# Altium integrated library TI_Logic_Gate.IntLib: 2017 symbols (part 6 of 56)
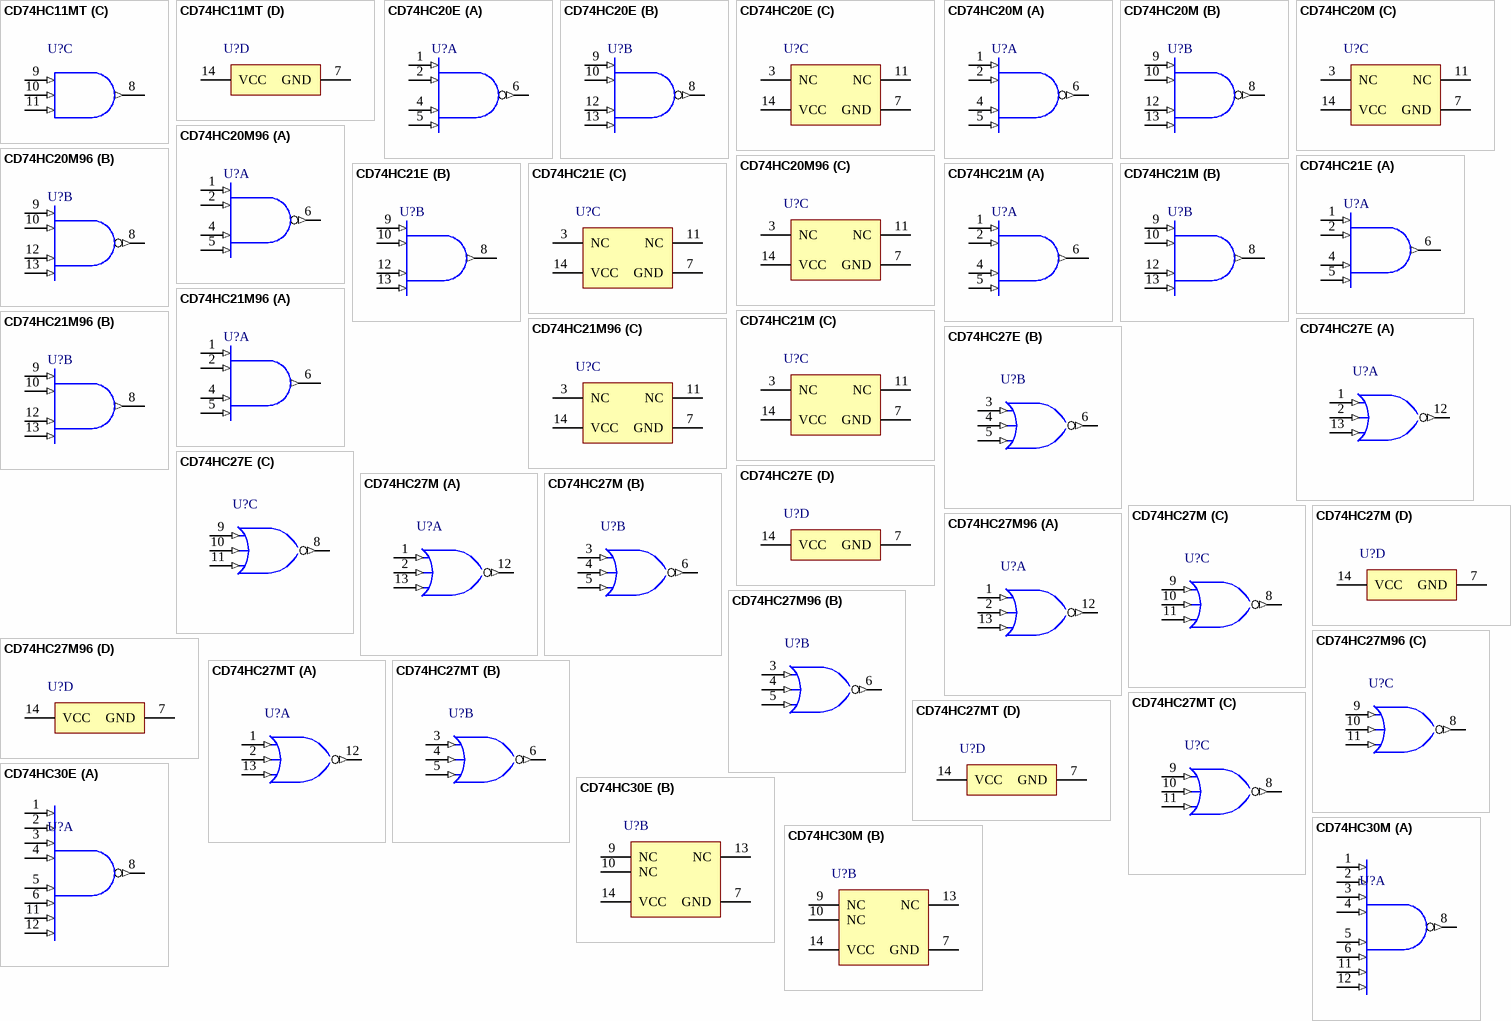
[diagram p231: symbols CD74HC11MT to CD74HC30M]

## CD74HC27MT
designator U?
High Speed CMOS Logic Triple 3-Input NOR Gates, D0014A, SMALL T&R; Generic Part Number: CD74HC27; Manufacturer: Texas Instruments; PartNumber: CD74HC27MT; VCC(Min)(V): 2; VCC(Max)(V): 6; Bits(#): 3; Rating: Catalog; tpd @ Nom Voltage(Max)(ns): 24; ICC @ Nom Voltage(Max)(mA): 0.02; F @ Nom Voltage(Max)(Mhz): 70; Voltage(Nom)(V): 5; Output Drive (IOL/IOH)(Max)(mA): 5.2/-5.2; DatasheetVersion: SCHS132C; PackageReference: D0014A; Output Type: CMOS; Input Type: CMOS; Operating Temperature Range(C): -55 to 125; Code_JEDEC: MS-012; ComponentLink1Description: Manufacturer URL; ComponentLink1URL: http://www.ti.com/; ComponentLink2Description: Datasheet; ComponentLink2URL: http://www.ti.com/lit/ds/symlink/cd74hc27.pdf; ComponentLink3Description: Package Specification; ComponentLink3URL: http://www.ti.com/lit/ml/mpds177g/mpds177g.pdf
footprint D0014A_N (SOIC, 14-Leads, Body 8.75x4mm, Pitch 1.27mm, IPC Medium Density)
footprint D0014A_M (SOIC, 14-Leads, Body 8.75x4mm, Pitch 1.27mm, IPC Low Density)
footprint D0014A_L (SOIC, 14-Leads, Body 8.75x4mm, Pitch 1.27mm, IPC High Density)
part A pins: 1 1A (in), 2 1B (in), 12 1Y (out), 13 1C (in)
part B pins: 3 2A (in), 4 2B (in), 5 2C (in), 6 2Y (out)
part C pins: 8 3Y (out), 9 3A (in), 10 3B (in), 11 3C (in)
part D pins: 7 GND (power), 14 VCC (power)

## CD74HC30E
designator U?
High Speed CMOS Logic 8-Input NAND Gate, N0014A, TUBE; Generic Part Number: CD74HC30; Manufacturer: Texas Instruments; PartNumber: CD74HC30E; VCC(Min)(V): 2; VCC(Max)(V): 6; ICC @ Nom Voltage(Max)(mA): 0.02; Bits(#): 1; F @ Nom Voltage(Max)(Mhz): 70; Rating: Catalog; Technology Family: HC; Voltage(Nom)(V): 5; Schmitt Trigger: No; Output Drive (IOL/IOH)(Max)(mA): 4/-4; tpd @ Nom Voltage(Max)(ns): 28; DatasheetVersion: SCHS121D; PackageReference: N0014A; Supplier 1: Mouser; Supplier Part Number 1: 595-CD74HC30E; Supplier 2: Digi-Key; Supplier Part Number 2: 296-9196-5-ND; Output Type: CMOS; Input Type: CMOS; Operating Temperature Range(C): -55 to 125; Code_JEDEC: MS-001; ComponentLink1Description: Manufacturer URL; ComponentLink1URL: http://www.ti.com/; ComponentLink2Description: Datasheet; ComponentLink2URL: http://www.ti.com/lit/ds/symlink/cd74hc30.pdf; ComponentLink3Description: Package Specification; ComponentLink3URL: http://www.ti.com/lit/ml/mpdi002c/mpdi002c.pdf
footprint N0014A (DIP, 14-Leads, Body 19.7x6.6mm, Pitch 2.54mm)
part A pins: 1 A (in), 2 B (in), 3 C (in), 4 D (in), 5 E (in), 6 F (in), 8 ~{Y} (out), 11 G (in), 12 H (in)
part B pins: 7 GND (power), 9 NC, 10 NC, 13 NC, 14 VCC (power)

## CD74HC30M
designator U?
High Speed CMOS Logic 8-Input NAND Gate, D0014A, TUBE; Generic Part Number: CD74HC30; Manufacturer: Texas Instruments; PartNumber: CD74HC30M; VCC(Min)(V): 2; VCC(Max)(V): 6; ICC @ Nom Voltage(Max)(mA): 0.02; Bits(#): 1; F @ Nom Voltage(Max)(Mhz): 70; Rating: Catalog; Technology Family: HC; Voltage(Nom)(V): 5; Schmitt Trigger: No; Output Drive (IOL/IOH)(Max)(mA): 4/-4; tpd @ Nom Voltage(Max)(ns): 28; DatasheetVersion: SCHS121D; PackageReference: D0014A; Supplier 1: Mouser; Supplier Part Number 1: 595-CD74HC30M; Supplier 2: Digi-Key; Supplier Part Number 2: 296-9197-5-ND; Output Type: CMOS; Input Type: CMOS; Operating Temperature Range(C): -55 to 125; Code_JEDEC: MS-012; ComponentLink1Description: Manufacturer URL; ComponentLink1URL: http://www.ti.com/; ComponentLink2Description: Datasheet; ComponentLink2URL: http://www.ti.com/lit/ds/symlink/cd74hc30.pdf; ComponentLink3Description: Package Specification; ComponentLink3URL: http://www.ti.com/lit/ml/mpds177g/mpds177g.pdf
footprint D0014A_N (SOIC, 14-Leads, Body 8.75x4mm, Pitch 1.27mm, IPC Medium Density)
footprint D0014A_M (SOIC, 14-Leads, Body 8.75x4mm, Pitch 1.27mm, IPC Low Density)
footprint D0014A_L (SOIC, 14-Leads, Body 8.75x4mm, Pitch 1.27mm, IPC High Density)
part A pins: 1 A (in), 2 B (in), 3 C (in), 4 D (in), 5 E (in), 6 F (in), 8 ~{Y} (out), 11 G (in), 12 H (in)
part B pins: 7 GND (power), 9 NC, 10 NC, 13 NC, 14 VCC (power)

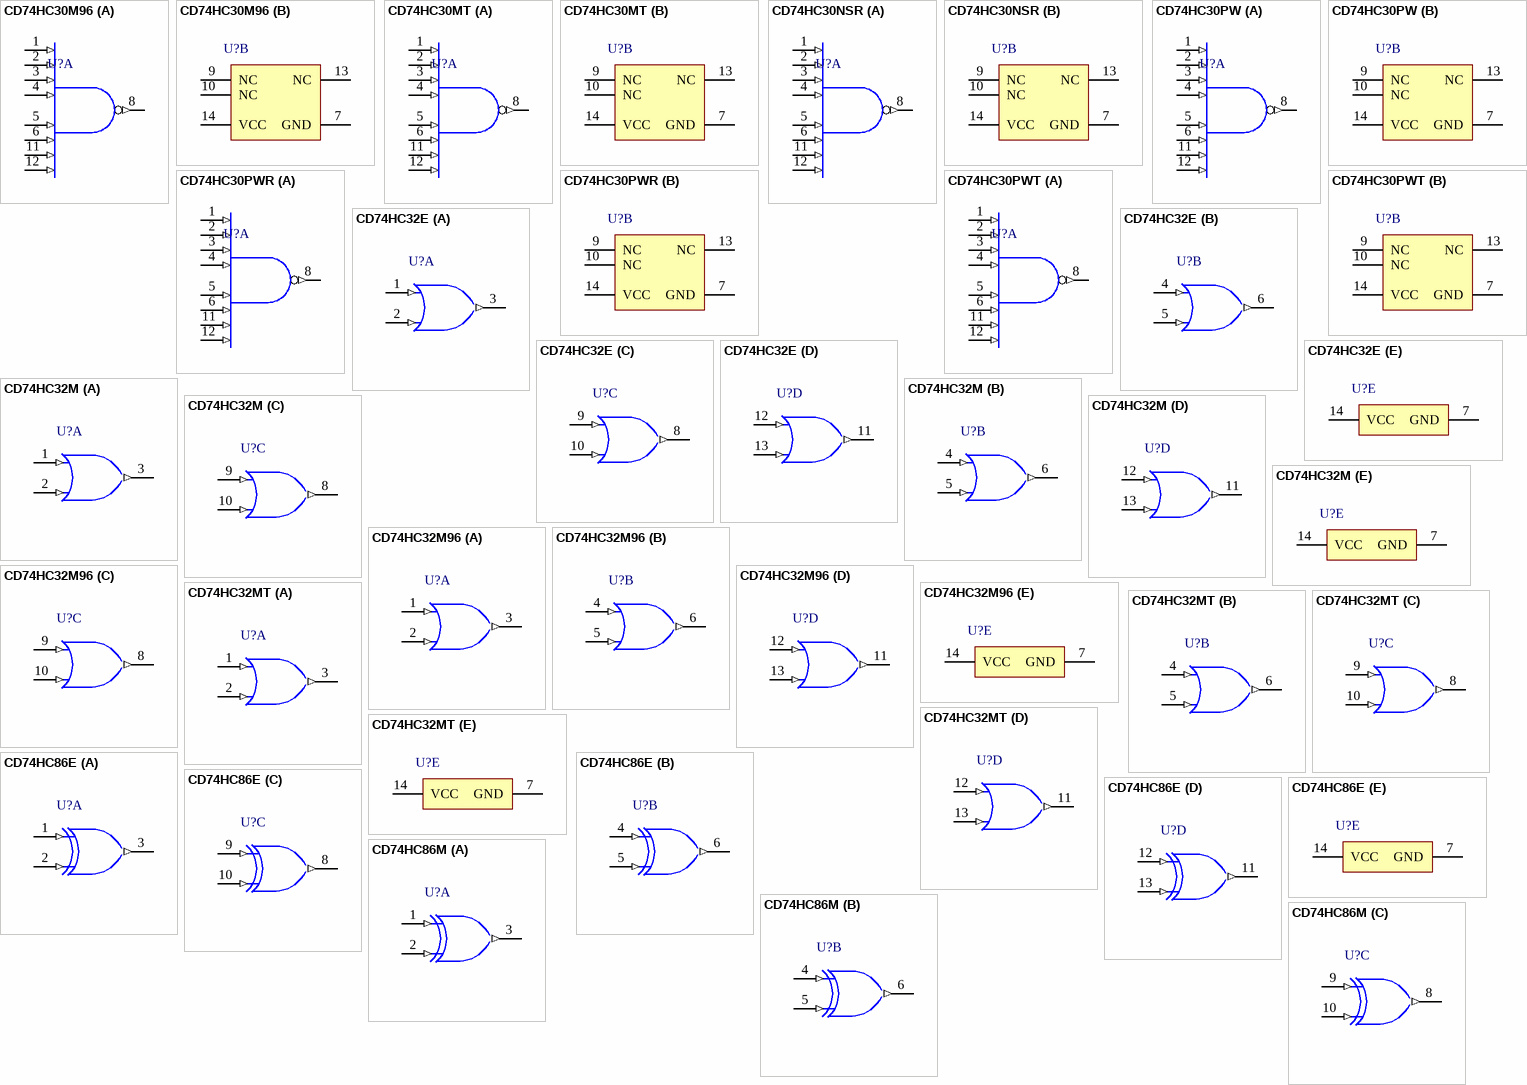
[diagram p22: symbols CD74HC30M96 to CD74HC86M]

## CD74HC30M96
designator U?
High Speed CMOS Logic 8-Input NAND Gate, D0014A, LARGE T&R; Generic Part Number: CD74HC30; Manufacturer: Texas Instruments; PartNumber: CD74HC30M96; VCC(Min)(V): 2; VCC(Max)(V): 6; ICC @ Nom Voltage(Max)(mA): 0.02; Bits(#): 1; F @ Nom Voltage(Max)(Mhz): 70; Rating: Catalog; Technology Family: HC; Voltage(Nom)(V): 5; Schmitt Trigger: No; Output Drive (IOL/IOH)(Max)(mA): 4/-4; tpd @ Nom Voltage(Max)(ns): 28; DatasheetVersion: SCHS121D; PackageReference: D0014A; Supplier 1: Mouser; Supplier Part Number 1: 595-CD74HC30M96; Supplier 2: Digi-Key; Supplier Part Number 2: 296-14521-2-ND; Supplier 3: Digi-Key; Supplier Part Number 3: 296-14521-1-ND; Supplier 4: Digi-Key; Supplier Part Number 4: 296-14521-6-ND; Output Type: CMOS; Input Type: CMOS; Operating Temperature Range(C): -55 to 125; Code_JEDEC: MS-012; ComponentLink1Description: Manufacturer URL; ComponentLink1URL: http://www.ti.com/; ComponentLink2Description: Datasheet; ComponentLink2URL: http://www.ti.com/lit/ds/symlink/cd74hc30.pdf; ComponentLink3Description: Package Specification; ComponentLink3URL: http://www.ti.com/lit/ml/mpds177g/mpds177g.pdf
footprint D0014A_N (SOIC, 14-Leads, Body 8.75x4mm, Pitch 1.27mm, IPC Medium Density)
footprint D0014A_M (SOIC, 14-Leads, Body 8.75x4mm, Pitch 1.27mm, IPC Low Density)
footprint D0014A_L (SOIC, 14-Leads, Body 8.75x4mm, Pitch 1.27mm, IPC High Density)
part A pins: 1 A (in), 2 B (in), 3 C (in), 4 D (in), 5 E (in), 6 F (in), 8 ~{Y} (out), 11 G (in), 12 H (in)
part B pins: 7 GND (power), 9 NC, 10 NC, 13 NC, 14 VCC (power)

## CD74HC30MT
designator U?
High Speed CMOS Logic 8-Input NAND Gate, D0014A, SMALL T&R; Generic Part Number: CD74HC30; Manufacturer: Texas Instruments; PartNumber: CD74HC30MT; VCC(Min)(V): 2; VCC(Max)(V): 6; ICC @ Nom Voltage(Max)(mA): 0.02; Bits(#): 1; F @ Nom Voltage(Max)(Mhz): 70; Rating: Catalog; Technology Family: HC; Voltage(Nom)(V): 5; Schmitt Trigger: No; Output Drive (IOL/IOH)(Max)(mA): 4/-4; tpd @ Nom Voltage(Max)(ns): 28; DatasheetVersion: SCHS121D; PackageReference: D0014A; Supplier 1: Mouser; Supplier Part Number 1: 595-CD74HC30MT; Supplier 2: Digi-Key; Supplier Part Number 2: CD74HC30MT-ND; Output Type: CMOS; Input Type: CMOS; Operating Temperature Range(C): -55 to 125; Code_JEDEC: MS-012; ComponentLink1Description: Manufacturer URL; ComponentLink1URL: http://www.ti.com/; ComponentLink2Description: Datasheet; ComponentLink2URL: http://www.ti.com/lit/ds/symlink/cd74hc30.pdf; ComponentLink3Description: Package Specification; ComponentLink3URL: http://www.ti.com/lit/ml/mpds177g/mpds177g.pdf
footprint D0014A_N (SOIC, 14-Leads, Body 8.75x4mm, Pitch 1.27mm, IPC Medium Density)
footprint D0014A_M (SOIC, 14-Leads, Body 8.75x4mm, Pitch 1.27mm, IPC Low Density)
footprint D0014A_L (SOIC, 14-Leads, Body 8.75x4mm, Pitch 1.27mm, IPC High Density)
part A pins: 1 A (in), 2 B (in), 3 C (in), 4 D (in), 5 E (in), 6 F (in), 8 ~{Y} (out), 11 G (in), 12 H (in)
part B pins: 7 GND (power), 9 NC, 10 NC, 13 NC, 14 VCC (power)

## CD74HC30NSR
designator U?
High Speed CMOS Logic 8-Input NAND Gate, NS0014A, LARGE T&R; Generic Part Number: CD74HC30; Manufacturer: Texas Instruments; PartNumber: CD74HC30NSR; VCC(Min)(V): 2; VCC(Max)(V): 6; ICC @ Nom Voltage(Max)(mA): 0.02; Bits(#): 1; F @ Nom Voltage(Max)(Mhz): 70; Rating: Catalog; Technology Family: HC; Voltage(Nom)(V): 5; Schmitt Trigger: No; Output Drive (IOL/IOH)(Max)(mA): 4/-4; tpd @ Nom Voltage(Max)(ns): 28; DatasheetVersion: SCHS121D; PackageReference: NS0014A; Supplier 1: Mouser; Supplier Part Number 1: 595-CD74HC30NSR; Supplier 2: Digi-Key; Supplier Part Number 2: 296-28892-2-ND; Supplier 3: Digi-Key; Supplier Part Number 3: 296-28892-1-ND; Supplier 4: Digi-Key; Supplier Part Number 4: 296-28892-6-ND; Output Type: CMOS; Input Type: CMOS; Operating Temperature Range(C): -55 to 125; ComponentLink1Description: Manufacturer URL; ComponentLink1URL: http://www.ti.com/; ComponentLink2Description: Datasheet; ComponentLink2URL: http://www.ti.com/lit/ds/symlink/cd74hc30.pdf; ComponentLink3Description: Package Specification; ComponentLink3URL: http://www.ti.com/lit/ml/msop002a/msop002a.pdf
footprint NS0014A_N (SOIC,14-Leads,Body 10.5x5.6mm,Pitch 1.27mm,IPC Medium Density)
footprint NS0014A_M (SOIC,14-Leads,Body 10.5x5.6mm,Pitch 1.27mm,IPC Low Density)
footprint NS0014A_L (SOIC,14-Leads,Body 10.5x5.6mm,Pitch 0.4mm,IPC High Density)
part A pins: 1 A (in), 2 B (in), 3 C (in), 4 D (in), 5 E (in), 6 F (in), 8 ~{Y} (out), 11 G (in), 12 H (in)
part B pins: 7 GND (power), 9 NC, 10 NC, 13 NC, 14 VCC (power)

## CD74HC30PW
designator U?
High Speed CMOS Logic 8-Input NAND Gate, PW0014A, TUBE; Generic Part Number: CD74HC30; Manufacturer: Texas Instruments; PartNumber: CD74HC30PW; VCC(Min)(V): 2; VCC(Max)(V): 6; ICC @ Nom Voltage(Max)(mA): 0.02; Bits(#): 1; F @ Nom Voltage(Max)(Mhz): 70; Rating: Catalog; Technology Family: HC; Voltage(Nom)(V): 5; Schmitt Trigger: No; Output Drive (IOL/IOH)(Max)(mA): 4/-4; tpd @ Nom Voltage(Max)(ns): 28; DatasheetVersion: SCHS121D; PackageReference: PW0014A; Supplier 1: Mouser; Supplier Part Number 1: 595-CD74HC30PW; Supplier 2: Digi-Key; Supplier Part Number 2: 296-33067-5-ND; Output Type: CMOS; Input Type: CMOS; Operating Temperature Range(C): -55 to 125; Code_JEDEC: MO-153; ComponentLink1Description: Manufacturer URL; ComponentLink1URL: http://www.ti.com/; ComponentLink2Description: Datasheet; ComponentLink2URL: http://www.ti.com/lit/ds/symlink/cd74hc30.pdf; ComponentLink3Description: Package Specification; ComponentLink3URL: http://www.ti.com/lit/ml/mpds360/mpds360.pdf
footprint PW0014A_N (SOP, 14-Leads, Body 5.1x4.5mm, Pitch 0.65mm, IPC Medium Density)
footprint PW0014A_M (SOP, 14-Leads, Body 5.1x4.5mm, Pitch 0.65mm, IPC Low Density)
footprint PW0014A_L (SOP, 14-Leads, Body 5.1x4.5mm, Pitch 0.65mm, IPC High Density)
part A pins: 1 A (in), 2 B (in), 3 C (in), 4 D (in), 5 E (in), 6 F (in), 8 ~{Y} (out), 11 G (in), 12 H (in)
part B pins: 7 GND (power), 9 NC, 10 NC, 13 NC, 14 VCC (power)

## CD74HC30PWR
designator U?
High Speed CMOS Logic 8-Input NAND Gate, PW0014A, LARGE T&R; Generic Part Number: CD74HC30; Manufacturer: Texas Instruments; PartNumber: CD74HC30PWR; VCC(Min)(V): 2; VCC(Max)(V): 6; ICC @ Nom Voltage(Max)(mA): 0.02; Bits(#): 1; F @ Nom Voltage(Max)(Mhz): 70; Rating: Catalog; Technology Family: HC; Voltage(Nom)(V): 5; Schmitt Trigger: No; Output Drive (IOL/IOH)(Max)(mA): 4/-4; tpd @ Nom Voltage(Max)(ns): 28; DatasheetVersion: SCHS121D; PackageReference: PW0014A; Supplier 1: Mouser; Supplier Part Number 1: 595-CD74HC30PWR; Supplier 2: Digi-Key; Supplier Part Number 2: 296-28615-2-ND; Supplier 3: Digi-Key; Supplier Part Number 3: 296-28615-1-ND; Supplier 4: Digi-Key; Supplier Part Number 4: 296-28615-6-ND; Output Type: CMOS; Input Type: CMOS; Operating Temperature Range(C): -55 to 125; Code_JEDEC: MO-153; ComponentLink1Description: Manufacturer URL; ComponentLink1URL: http://www.ti.com/; ComponentLink2Description: Datasheet; ComponentLink2URL: http://www.ti.com/lit/ds/symlink/cd74hc30.pdf; ComponentLink3Description: Package Specification; ComponentLink3URL: http://www.ti.com/lit/ml/mpds360/mpds360.pdf
footprint PW0014A_N (SOP, 14-Leads, Body 5.1x4.5mm, Pitch 0.65mm, IPC Medium Density)
footprint PW0014A_M (SOP, 14-Leads, Body 5.1x4.5mm, Pitch 0.65mm, IPC Low Density)
footprint PW0014A_L (SOP, 14-Leads, Body 5.1x4.5mm, Pitch 0.65mm, IPC High Density)
part A pins: 1 A (in), 2 B (in), 3 C (in), 4 D (in), 5 E (in), 6 F (in), 8 ~{Y} (out), 11 G (in), 12 H (in)
part B pins: 7 GND (power), 9 NC, 10 NC, 13 NC, 14 VCC (power)

## CD74HC30PWT
designator U?
High Speed CMOS Logic 8-Input NAND Gate, PW0014A, SMALL T&R; Generic Part Number: CD74HC30; Manufacturer: Texas Instruments; PartNumber: CD74HC30PWT; VCC(Min)(V): 2; VCC(Max)(V): 6; ICC @ Nom Voltage(Max)(mA): 0.02; Bits(#): 1; F @ Nom Voltage(Max)(Mhz): 70; Rating: Catalog; Technology Family: HC; Voltage(Nom)(V): 5; Schmitt Trigger: No; Output Drive (IOL/IOH)(Max)(mA): 4/-4; tpd @ Nom Voltage(Max)(ns): 28; DatasheetVersion: SCHS121D; PackageReference: PW0014A; Supplier 1: Mouser; Supplier Part Number 1: 595-CD74HC30PWT; Supplier 2: Digi-Key; Supplier Part Number 2: 296-32066-2-ND; Supplier 3: Digi-Key; Supplier Part Number 3: 296-32066-1-ND; Supplier 4: Digi-Key; Supplier Part Number 4: 296-32066-6-ND; Output Type: CMOS; Input Type: CMOS; Operating Temperature Range(C): -55 to 125; Code_JEDEC: MO-153; ComponentLink1Description: Manufacturer URL; ComponentLink1URL: http://www.ti.com/; ComponentLink2Description: Datasheet; ComponentLink2URL: http://www.ti.com/lit/ds/symlink/cd74hc30.pdf; ComponentLink3Description: Package Specification; ComponentLink3URL: http://www.ti.com/lit/ml/mpds360/mpds360.pdf
footprint PW0014A_N (SOP, 14-Leads, Body 5.1x4.5mm, Pitch 0.65mm, IPC Medium Density)
footprint PW0014A_M (SOP, 14-Leads, Body 5.1x4.5mm, Pitch 0.65mm, IPC Low Density)
footprint PW0014A_L (SOP, 14-Leads, Body 5.1x4.5mm, Pitch 0.65mm, IPC High Density)
part A pins: 1 A (in), 2 B (in), 3 C (in), 4 D (in), 5 E (in), 6 F (in), 8 ~{Y} (out), 11 G (in), 12 H (in)
part B pins: 7 GND (power), 9 NC, 10 NC, 13 NC, 14 VCC (power)

## CD74HC32E
designator U?
High Speed CMOS Logic Quad 2-Input OR Gates, N0014A, TUBE; Generic Part Number: CD74HC32; Manufacturer: Texas Instruments; PartNumber: CD74HC32E; VCC(Min)(V): 2; VCC(Max)(V): 6; ICC @ Nom Voltage(Max)(mA): 0.02; Bits(#): 4; F @ Nom Voltage(Max)(Mhz): 70; Rating: Catalog; Voltage(Nom)(V): 5; Output Drive (IOL/IOH)(Max)(mA): 5.2/-5.2; tpd @ Nom Voltage(Max)(ns): 23; DatasheetVersion: SCHS274C; PackageReference: N0014A; Output Type: CMOS; Input Type: CMOS; Operating Temperature Range(C): -55 to 125; Code_JEDEC: MS-001; ComponentLink1Description: Manufacturer URL; ComponentLink1URL: http://www.ti.com/; ComponentLink2Description: Datasheet; ComponentLink2URL: http://www.ti.com/lit/ds/symlink/cd74hc32.pdf; ComponentLink3Description: Package Specification; ComponentLink3URL: http://www.ti.com/lit/ml/mpdi002c/mpdi002c.pdf
footprint N0014A (DIP, 14-Leads, Body 19.7x6.6mm, Pitch 2.54mm)
part A pins: 1 1A (in), 2 1B (in), 3 1Y (out)
part B pins: 4 2A (in), 5 2B (in), 6 2Y (out)
part C pins: 8 3Y (out), 9 3A (in), 10 3B (in)
part D pins: 11 4Y (out), 12 4A (in), 13 4B (in)
part E pins: 7 GND (power), 14 VCC (power)

## CD74HC32M
designator U?
High Speed CMOS Logic Quad 2-Input OR Gates, D0014A, TUBE; Generic Part Number: CD74HC32; Manufacturer: Texas Instruments; PartNumber: CD74HC32M; VCC(Min)(V): 2; VCC(Max)(V): 6; ICC @ Nom Voltage(Max)(mA): 0.02; Bits(#): 4; F @ Nom Voltage(Max)(Mhz): 70; Rating: Catalog; Voltage(Nom)(V): 5; Output Drive (IOL/IOH)(Max)(mA): 5.2/-5.2; tpd @ Nom Voltage(Max)(ns): 23; DatasheetVersion: SCHS274C; PackageReference: D0014A; Output Type: CMOS; Input Type: CMOS; Operating Temperature Range(C): -55 to 125; Code_JEDEC: MS-012; ComponentLink1Description: Manufacturer URL; ComponentLink1URL: http://www.ti.com/; ComponentLink2Description: Datasheet; ComponentLink2URL: http://www.ti.com/lit/ds/symlink/cd74hc32.pdf; ComponentLink3Description: Package Specification; ComponentLink3URL: http://www.ti.com/lit/ml/mpds177g/mpds177g.pdf
footprint D0014A_N (SOIC, 14-Leads, Body 8.75x4mm, Pitch 1.27mm, IPC Medium Density)
footprint D0014A_M (SOIC, 14-Leads, Body 8.75x4mm, Pitch 1.27mm, IPC Low Density)
footprint D0014A_L (SOIC, 14-Leads, Body 8.75x4mm, Pitch 1.27mm, IPC High Density)
part A pins: 1 1A (in), 2 1B (in), 3 1Y (out)
part B pins: 4 2A (in), 5 2B (in), 6 2Y (out)
part C pins: 8 3Y (out), 9 3A (in), 10 3B (in)
part D pins: 11 4Y (out), 12 4A (in), 13 4B (in)
part E pins: 7 GND (power), 14 VCC (power)

## CD74HC32M96
designator U?
High Speed CMOS Logic Quad 2-Input OR Gates, D0014A, LARGE T&R; Generic Part Number: CD74HC32; Manufacturer: Texas Instruments; PartNumber: CD74HC32M96; VCC(Min)(V): 2; VCC(Max)(V): 6; ICC @ Nom Voltage(Max)(mA): 0.02; Bits(#): 4; F @ Nom Voltage(Max)(Mhz): 70; Rating: Catalog; Voltage(Nom)(V): 5; Output Drive (IOL/IOH)(Max)(mA): 5.2/-5.2; tpd @ Nom Voltage(Max)(ns): 23; DatasheetVersion: SCHS274C; PackageReference: D0014A; Output Type: CMOS; Input Type: CMOS; Operating Temperature Range(C): -55 to 125; Code_JEDEC: MS-012; ComponentLink1Description: Manufacturer URL; ComponentLink1URL: http://www.ti.com/; ComponentLink2Description: Datasheet; ComponentLink2URL: http://www.ti.com/lit/ds/symlink/cd74hc32.pdf; ComponentLink3Description: Package Specification; ComponentLink3URL: http://www.ti.com/lit/ml/mpds177g/mpds177g.pdf
footprint D0014A_N (SOIC, 14-Leads, Body 8.75x4mm, Pitch 1.27mm, IPC Medium Density)
footprint D0014A_M (SOIC, 14-Leads, Body 8.75x4mm, Pitch 1.27mm, IPC Low Density)
footprint D0014A_L (SOIC, 14-Leads, Body 8.75x4mm, Pitch 1.27mm, IPC High Density)
part A pins: 1 1A (in), 2 1B (in), 3 1Y (out)
part B pins: 4 2A (in), 5 2B (in), 6 2Y (out)
part C pins: 8 3Y (out), 9 3A (in), 10 3B (in)
part D pins: 11 4Y (out), 12 4A (in), 13 4B (in)
part E pins: 7 GND (power), 14 VCC (power)

## CD74HC32MT
designator U?
High Speed CMOS Logic Quad 2-Input OR Gates, D0014A, SMALL T&R; Generic Part Number: CD74HC32; Manufacturer: Texas Instruments; PartNumber: CD74HC32MT; VCC(Min)(V): 2; VCC(Max)(V): 6; ICC @ Nom Voltage(Max)(mA): 0.02; Bits(#): 4; F @ Nom Voltage(Max)(Mhz): 70; Rating: Catalog; Voltage(Nom)(V): 5; Output Drive (IOL/IOH)(Max)(mA): 5.2/-5.2; tpd @ Nom Voltage(Max)(ns): 23; DatasheetVersion: SCHS274C; PackageReference: D0014A; Output Type: CMOS; Input Type: CMOS; Operating Temperature Range(C): -55 to 125; Code_JEDEC: MS-012; ComponentLink1Description: Manufacturer URL; ComponentLink1URL: http://www.ti.com/; ComponentLink2Description: Datasheet; ComponentLink2URL: http://www.ti.com/lit/ds/symlink/cd74hc32.pdf; ComponentLink3Description: Package Specification; ComponentLink3URL: http://www.ti.com/lit/ml/mpds177g/mpds177g.pdf
footprint D0014A_N (SOIC, 14-Leads, Body 8.75x4mm, Pitch 1.27mm, IPC Medium Density)
footprint D0014A_M (SOIC, 14-Leads, Body 8.75x4mm, Pitch 1.27mm, IPC Low Density)
footprint D0014A_L (SOIC, 14-Leads, Body 8.75x4mm, Pitch 1.27mm, IPC High Density)
part A pins: 1 1A (in), 2 1B (in), 3 1Y (out)
part B pins: 4 2A (in), 5 2B (in), 6 2Y (out)
part C pins: 8 3Y (out), 9 3A (in), 10 3B (in)
part D pins: 11 4Y (out), 12 4A (in), 13 4B (in)
part E pins: 7 GND (power), 14 VCC (power)

## CD74HC86E
designator U?
High Speed CMOS Logic Quad 2-Input Exclusive-OR Gates, N0014A, TUBE; Generic Part Number: CD74HC86; Manufacturer: Texas Instruments; PartNumber: CD74HC86E; VCC(Min)(V): 2; VCC(Max)(V): 6; ICC @ Nom Voltage(Max)(mA): 0.02; Bits(#): 4; F @ Nom Voltage(Max)(Mhz): 70; Rating: Catalog; Technology Family: HC; Voltage(Nom)(V): 5; Schmitt Trigger: No; Output Drive (IOL/IOH)(Max)(mA): 5.2/-5.2; tpd @ Nom Voltage(Max)(ns): 30; DatasheetVersion: SCHS137D; PackageReference: N0014A; Supplier 1: Mouser; Supplier Part Number 1: 595-CD74HC86E; Supplier 2: Digi-Key; Supplier Part Number 2: 296-12822-5-ND; Output Type: CMOS; Input Type: CMOS; Operating Temperature Range(C): -55 to 125; ComponentLink1Description: Manufacturer URL; ComponentLink1URL: http://www.ti.com/; ComponentLink2Description: Datasheet; ComponentLink2URL: http://www.ti.com/lit/ds/symlink/cd74hc86.pdf
footprint N0014A (DIP, 14-Leads, Body 19.7x6.6mm, Pitch 2.54mm)
part A pins: 1 1A (in), 2 1B (in), 3 1Y (out)
part B pins: 4 2A (in), 5 2B (in), 6 2Y (out)
part C pins: 8 3Y (out), 9 3A (in), 10 3B (in)
part D pins: 11 4Y (out), 12 4A (in), 13 4B (in)
part E pins: 7 GND (power), 14 VCC (power)

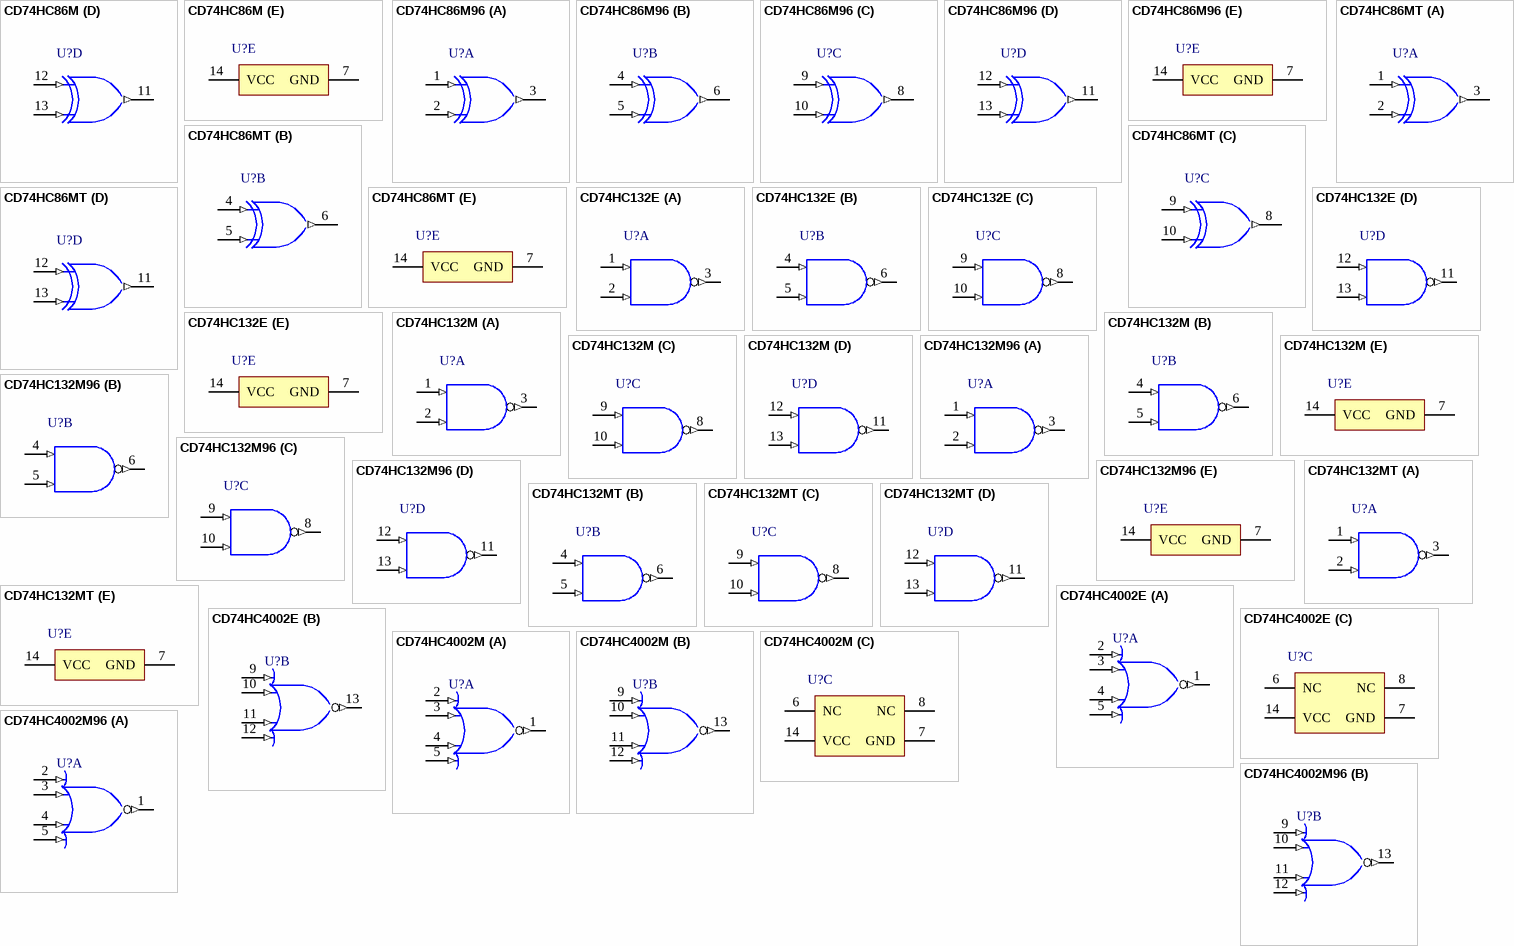
[diagram p23: symbols CD74HC86M to CD74HC4002M96]

## CD74HC86M
designator U?
High Speed CMOS Logic Quad 2-Input Exclusive-OR Gates, D0014A, TUBE; Generic Part Number: CD74HC86; Manufacturer: Texas Instruments; PartNumber: CD74HC86M; VCC(Min)(V): 2; VCC(Max)(V): 6; ICC @ Nom Voltage(Max)(mA): 0.02; Bits(#): 4; F @ Nom Voltage(Max)(Mhz): 70; Rating: Catalog; Technology Family: HC; Voltage(Nom)(V): 5; Schmitt Trigger: No; Output Drive (IOL/IOH)(Max)(mA): 5.2/-5.2; tpd @ Nom Voltage(Max)(ns): 30; DatasheetVersion: SCHS137D; PackageReference: D0014A; Supplier 1: Mouser; Supplier Part Number 1: 595-CD74HC86M; Supplier 2: Digi-Key; Supplier Part Number 2: 296-33123-5-ND; Output Type: CMOS; Input Type: CMOS; Operating Temperature Range(C): -55 to 125; ComponentLink1Description: Manufacturer URL; ComponentLink1URL: http://www.ti.com/; ComponentLink2Description: Datasheet; ComponentLink2URL: http://www.ti.com/lit/ds/symlink/cd74hc86.pdf
footprint D0014A_N (SOIC, 14-Leads, Body 8.75x4mm, Pitch 1.27mm, IPC Medium Density)
footprint D0014A_M (SOIC, 14-Leads, Body 8.75x4mm, Pitch 1.27mm, IPC Low Density)
footprint D0014A_L (SOIC, 14-Leads, Body 8.75x4mm, Pitch 1.27mm, IPC High Density)
part A pins: 1 1A (in), 2 1B (in), 3 1Y (out)
part B pins: 4 2A (in), 5 2B (in), 6 2Y (out)
part C pins: 8 3Y (out), 9 3A (in), 10 3B (in)
part D pins: 11 4Y (out), 12 4A (in), 13 4B (in)
part E pins: 7 GND (power), 14 VCC (power)

## CD74HC86M96
designator U?
High Speed CMOS Logic Quad 2-Input Exclusive-OR Gates, D0014A, LARGE T&R; Generic Part Number: CD74HC86; Manufacturer: Texas Instruments; PartNumber: CD74HC86M96; VCC(Min)(V): 2; VCC(Max)(V): 6; ICC @ Nom Voltage(Max)(mA): 0.02; Bits(#): 4; F @ Nom Voltage(Max)(Mhz): 70; Rating: Catalog; Technology Family: HC; Voltage(Nom)(V): 5; Schmitt Trigger: No; Output Drive (IOL/IOH)(Max)(mA): 5.2/-5.2; tpd @ Nom Voltage(Max)(ns): 30; DatasheetVersion: SCHS137D; PackageReference: D0014A; Supplier 1: Mouser; Supplier Part Number 1: 595-CD74HC86M96; Supplier 2: Digi-Key; Supplier Part Number 2: 296-28583-2-ND; Supplier 3: Digi-Key; Supplier Part Number 3: 296-28583-1-ND; Supplier 4: Digi-Key; Supplier Part Number 4: 296-28583-6-ND; Output Type: CMOS; Input Type: CMOS; Operating Temperature Range(C): -55 to 125; ComponentLink1Description: Manufacturer URL; ComponentLink1URL: http://www.ti.com/; ComponentLink2Description: Datasheet; ComponentLink2URL: http://www.ti.com/lit/ds/symlink/cd74hc86.pdf
footprint D0014A_N (SOIC, 14-Leads, Body 8.75x4mm, Pitch 1.27mm, IPC Medium Density)
footprint D0014A_M (SOIC, 14-Leads, Body 8.75x4mm, Pitch 1.27mm, IPC Low Density)
footprint D0014A_L (SOIC, 14-Leads, Body 8.75x4mm, Pitch 1.27mm, IPC High Density)
part A pins: 1 1A (in), 2 1B (in), 3 1Y (out)
part B pins: 4 2A (in), 5 2B (in), 6 2Y (out)
part C pins: 8 3Y (out), 9 3A (in), 10 3B (in)
part D pins: 11 4Y (out), 12 4A (in), 13 4B (in)
part E pins: 7 GND (power), 14 VCC (power)

## CD74HC86MT
designator U?
High Speed CMOS Logic Quad 2-Input Exclusive-OR Gates, D0014A, SMALL T&R; Generic Part Number: CD74HC86; Manufacturer: Texas Instruments; PartNumber: CD74HC86MT; VCC(Min)(V): 2; VCC(Max)(V): 6; ICC @ Nom Voltage(Max)(mA): 0.02; Bits(#): 4; F @ Nom Voltage(Max)(Mhz): 70; Rating: Catalog; Technology Family: HC; Voltage(Nom)(V): 5; Schmitt Trigger: No; Output Drive (IOL/IOH)(Max)(mA): 5.2/-5.2; tpd @ Nom Voltage(Max)(ns): 30; DatasheetVersion: SCHS137D; PackageReference: D0014A; Supplier 1: Mouser; Supplier Part Number 1: 595-CD74HC86MT; Supplier 2: Digi-Key; Supplier Part Number 2: CD74HC86MT-ND; Output Type: CMOS; Input Type: CMOS; Operating Temperature Range(C): -55 to 125; ComponentLink1Description: Manufacturer URL; ComponentLink1URL: http://www.ti.com/; ComponentLink2Description: Datasheet; ComponentLink2URL: http://www.ti.com/lit/ds/symlink/cd74hc86.pdf
footprint D0014A_N (SOIC, 14-Leads, Body 8.75x4mm, Pitch 1.27mm, IPC Medium Density)
footprint D0014A_M (SOIC, 14-Leads, Body 8.75x4mm, Pitch 1.27mm, IPC Low Density)
footprint D0014A_L (SOIC, 14-Leads, Body 8.75x4mm, Pitch 1.27mm, IPC High Density)
part A pins: 1 1A (in), 2 1B (in), 3 1Y (out)
part B pins: 4 2A (in), 5 2B (in), 6 2Y (out)
part C pins: 8 3Y (out), 9 3A (in), 10 3B (in)
part D pins: 11 4Y (out), 12 4A (in), 13 4B (in)
part E pins: 7 GND (power), 14 VCC (power)

## CD74HC132E
designator U?
High Speed CMOS Logic Quad 2-Input Schmitt-Triggered NAND Gates, N0014A, TUBE; Generic Part Number: CD74HC132; Manufacturer: Texas Instruments; PartNumber: CD74HC132E; VCC(Min)(V): 2; VCC(Max)(V): 6; ICC @ Nom Voltage(Max)(mA): 0.02; Bits(#): 4; F @ Nom Voltage(Max)(Mhz): 70; Rating: Catalog; Technology Family: HC; Voltage(Nom)(V): 5; Schmitt Trigger: Yes; Output Drive (IOL/IOH)(Max)(mA): 5.2/-5.2; tpd @ Nom Voltage(Max)(ns): 27; DatasheetVersion: SCHS145E; PackageReference: N0014A; Supplier 1: Mouser; Supplier Part Number 1: 595-CD74HC132E; Supplier 2: Digi-Key; Supplier Part Number 2: 296-12784-5-ND; Output Type: CMOS; Input Type: CMOS; Operating Temperature Range(C): -55 to 125; Code_JEDEC: MS-001; ComponentLink1Description: Manufacturer URL; ComponentLink1URL: http://www.ti.com/; ComponentLink2Description: Datasheet; ComponentLink2URL: http://www.ti.com/lit/ds/symlink/cd74hc132.pdf; ComponentLink3Description: Package Specification; ComponentLink3URL: http://www.ti.com/lit/ml/mpdi002c/mpdi002c.pdf
footprint N0014A (DIP, 14-Leads, Body 19.7x6.6mm, Pitch 2.54mm)
part A pins: 1 1A (in) "Gate 1 input", 2 1B (in) "Gate 1 input", 3 1Y (out) "Gate 1 output"
part B pins: 4 2A (in) "Gate 2 input", 5 2B (in) "Gate 2 input", 6 2Y (out) "Gate 2 output"
part C pins: 8 3Y (out) "Gate 3 output", 9 3A (in) "Gate 3 input", 10 3B (in) "Gate 3 input"
part D pins: 11 4Y (out) "Gate 4 output", 12 4A (in) "Gate 4 input", 13 4B (in) "Gate 4 input"
part E pins: 7 GND (power) "Ground Pin", 14 VCC (power) "Power Pin"

## CD74HC132M
designator U?
High Speed CMOS Logic Quad 2-Input Schmitt-Triggered NAND Gates, D0014A, TUBE; Generic Part Number: CD74HC132; Manufacturer: Texas Instruments; PartNumber: CD74HC132M; VCC(Min)(V): 2; VCC(Max)(V): 6; ICC @ Nom Voltage(Max)(mA): 0.02; Bits(#): 4; F @ Nom Voltage(Max)(Mhz): 70; Rating: Catalog; Technology Family: HC; Voltage(Nom)(V): 5; Schmitt Trigger: Yes; Output Drive (IOL/IOH)(Max)(mA): 5.2/-5.2; tpd @ Nom Voltage(Max)(ns): 27; DatasheetVersion: SCHS145E; PackageReference: D0014A; Supplier 1: Mouser; Supplier Part Number 1: 595-CD74HC132M; Supplier 2: Digi-Key; Supplier Part Number 2: 296-9175-5-ND; Output Type: CMOS; Input Type: CMOS; Operating Temperature Range(C): -55 to 125; Code_JEDEC: MS-012; ComponentLink1Description: Manufacturer URL; ComponentLink1URL: http://www.ti.com/; ComponentLink2Description: Datasheet; ComponentLink2URL: http://www.ti.com/lit/ds/symlink/cd74hc132.pdf; ComponentLink3Description: Package Specification; ComponentLink3URL: http://www.ti.com/lit/ml/mpds177g/mpds177g.pdf
footprint D0014A_N (SOIC, 14-Leads, Body 8.75x4mm, Pitch 1.27mm, IPC Medium Density)
footprint D0014A_M (SOIC, 14-Leads, Body 8.75x4mm, Pitch 1.27mm, IPC Low Density)
footprint D0014A_L (SOIC, 14-Leads, Body 8.75x4mm, Pitch 1.27mm, IPC High Density)
part A pins: 1 1A (in) "Gate 1 input", 2 1B (in) "Gate 1 input", 3 1Y (out) "Gate 1 output"
part B pins: 4 2A (in) "Gate 2 input", 5 2B (in) "Gate 2 input", 6 2Y (out) "Gate 2 output"
part C pins: 8 3Y (out) "Gate 3 output", 9 3A (in) "Gate 3 input", 10 3B (in) "Gate 3 input"
part D pins: 11 4Y (out) "Gate 4 output", 12 4A (in) "Gate 4 input", 13 4B (in) "Gate 4 input"
part E pins: 7 GND (power) "Ground Pin", 14 VCC (power) "Power Pin"

## CD74HC132M96
designator U?
High Speed CMOS Logic Quad 2-Input Schmitt-Triggered NAND Gates, D0014A, LARGE T&R; Generic Part Number: CD74HC132; Manufacturer: Texas Instruments; PartNumber: CD74HC132M96; VCC(Min)(V): 2; VCC(Max)(V): 6; ICC @ Nom Voltage(Max)(mA): 0.02; Bits(#): 4; F @ Nom Voltage(Max)(Mhz): 70; Rating: Catalog; Technology Family: HC; Voltage(Nom)(V): 5; Schmitt Trigger: Yes; Output Drive (IOL/IOH)(Max)(mA): 5.2/-5.2; tpd @ Nom Voltage(Max)(ns): 27; DatasheetVersion: SCHS145E; PackageReference: D0014A; Supplier 1: Mouser; Supplier Part Number 1: 595-CD74HC132M96; Supplier 2: Digi-Key; Supplier Part Number 2: 296-9175-2-ND; Supplier 3: Digi-Key; Supplier Part Number 3: 296-9175-1-ND; Supplier 4: Digi-Key; Supplier Part Number 4: 296-9175-6-ND; Output Type: CMOS; Input Type: CMOS; Operating Temperature Range(C): -55 to 125; Code_JEDEC: MS-012; ComponentLink1Description: Manufacturer URL; ComponentLink1URL: http://www.ti.com/; ComponentLink2Description: Datasheet; ComponentLink2URL: http://www.ti.com/lit/ds/symlink/cd74hc132.pdf; ComponentLink3Description: Package Specification; ComponentLink3URL: http://www.ti.com/lit/ml/mpds177g/mpds177g.pdf
footprint D0014A_N (SOIC, 14-Leads, Body 8.75x4mm, Pitch 1.27mm, IPC Medium Density)
footprint D0014A_M (SOIC, 14-Leads, Body 8.75x4mm, Pitch 1.27mm, IPC Low Density)
footprint D0014A_L (SOIC, 14-Leads, Body 8.75x4mm, Pitch 1.27mm, IPC High Density)
part A pins: 1 1A (in) "Gate 1 input", 2 1B (in) "Gate 1 input", 3 1Y (out) "Gate 1 output"
part B pins: 4 2A (in) "Gate 2 input", 5 2B (in) "Gate 2 input", 6 2Y (out) "Gate 2 output"
part C pins: 8 3Y (out) "Gate 3 output", 9 3A (in) "Gate 3 input", 10 3B (in) "Gate 3 input"
part D pins: 11 4Y (out) "Gate 4 output", 12 4A (in) "Gate 4 input", 13 4B (in) "Gate 4 input"
part E pins: 7 GND (power) "Ground Pin", 14 VCC (power) "Power Pin"

## CD74HC132MT
designator U?
High Speed CMOS Logic Quad 2-Input Schmitt-Triggered NAND Gates, D0014A, SMALL T&R; Generic Part Number: CD74HC132; Manufacturer: Texas Instruments; PartNumber: CD74HC132MT; VCC(Min)(V): 2; VCC(Max)(V): 6; ICC @ Nom Voltage(Max)(mA): 0.02; Bits(#): 4; F @ Nom Voltage(Max)(Mhz): 70; Rating: Catalog; Technology Family: HC; Voltage(Nom)(V): 5; Schmitt Trigger: Yes; Output Drive (IOL/IOH)(Max)(mA): 5.2/-5.2; tpd @ Nom Voltage(Max)(ns): 27; DatasheetVersion: SCHS145E; PackageReference: D0014A; Supplier 1: Mouser; Supplier Part Number 1: 595-CD74HC132MT; Supplier 2: Digi-Key; Supplier Part Number 2: CD74HC132MT-ND; Output Type: CMOS; Input Type: CMOS; Operating Temperature Range(C): -55 to 125; Code_JEDEC: MS-012; ComponentLink1Description: Manufacturer URL; ComponentLink1URL: http://www.ti.com/; ComponentLink2Description: Datasheet; ComponentLink2URL: http://www.ti.com/lit/ds/symlink/cd74hc132.pdf; ComponentLink3Description: Package Specification; ComponentLink3URL: http://www.ti.com/lit/ml/mpds177g/mpds177g.pdf
footprint D0014A_N (SOIC, 14-Leads, Body 8.75x4mm, Pitch 1.27mm, IPC Medium Density)
footprint D0014A_M (SOIC, 14-Leads, Body 8.75x4mm, Pitch 1.27mm, IPC Low Density)
footprint D0014A_L (SOIC, 14-Leads, Body 8.75x4mm, Pitch 1.27mm, IPC High Density)
part A pins: 1 1A (in) "Gate 1 input", 2 1B (in) "Gate 1 input", 3 1Y (out) "Gate 1 output"
part B pins: 4 2A (in) "Gate 2 input", 5 2B (in) "Gate 2 input", 6 2Y (out) "Gate 2 output"
part C pins: 8 3Y (out) "Gate 3 output", 9 3A (in) "Gate 3 input", 10 3B (in) "Gate 3 input"
part D pins: 11 4Y (out) "Gate 4 output", 12 4A (in) "Gate 4 input", 13 4B (in) "Gate 4 input"
part E pins: 7 GND (power) "Ground Pin", 14 VCC (power) "Power Pin"

## CD74HC4002E
designator U?
High Speed CMOS Logic Dual 4-Input NOR Gates, N0014A, TUBE; Generic Part Number: CD74HC4002; Manufacturer: Texas Instruments; PartNumber: CD74HC4002E; VCC(Min)(V): 2; VCC(Max)(V): 6; Rating: Catalog; tpd @ Nom Voltage(Max)(ns): 25; ICC @ Nom Voltage(Max)(mA): 0.02; F @ Nom Voltage(Max)(Mhz): 70; Voltage(Nom)(V): 5; Output Drive (IOL/IOH)(Max)(mA): 5.2/-5.2; DatasheetVersion: SCHS197E; PackageReference: N0014A; Output Type: CMOS; Input Type: CMOS; Bits(#): 2; Operating Temperature Range(C): -55 to 125; Code_JEDEC: MS-001; ComponentLink1Description: Manufacturer URL; ComponentLink1URL: http://www.ti.com/; ComponentLink2Description: Datasheet; ComponentLink2URL: http://www.ti.com/lit/ds/symlink/cd74hc4002.pdf; ComponentLink3Description: Package Specification; ComponentLink3URL: http://www.ti.com/lit/ml/mpdi002c/mpdi002c.pdf
footprint N0014A (DIP, 14-Leads, Body 19.7x6.6mm, Pitch 2.54mm)
part A pins: 1 1Y (out), 2 1A (in), 3 1B (in), 4 1C (in), 5 1D (in)
part B pins: 9 2A (in), 10 2B (in), 11 2C (in), 12 2D (in), 13 2Y (out)
part C pins: 6 NC, 7 GND (power), 8 NC, 14 VCC (power)

## CD74HC4002M
designator U?
High Speed CMOS Logic Dual 4-Input NOR Gates, D0014A, TUBE; Generic Part Number: CD74HC4002; Manufacturer: Texas Instruments; PartNumber: CD74HC4002M; VCC(Min)(V): 2; VCC(Max)(V): 6; Rating: Catalog; tpd @ Nom Voltage(Max)(ns): 25; ICC @ Nom Voltage(Max)(mA): 0.02; F @ Nom Voltage(Max)(Mhz): 70; Voltage(Nom)(V): 5; Output Drive (IOL/IOH)(Max)(mA): 5.2/-5.2; DatasheetVersion: SCHS197E; PackageReference: D0014A; Output Type: CMOS; Input Type: CMOS; Bits(#): 2; Operating Temperature Range(C): -55 to 125; Code_JEDEC: MS-012; ComponentLink1Description: Manufacturer URL; ComponentLink1URL: http://www.ti.com/; ComponentLink2Description: Datasheet; ComponentLink2URL: http://www.ti.com/lit/ds/symlink/cd74hc4002.pdf; ComponentLink3Description: Package Specification; ComponentLink3URL: http://www.ti.com/lit/ml/mpds177g/mpds177g.pdf
footprint D0014A_N (SOIC, 14-Leads, Body 8.75x4mm, Pitch 1.27mm, IPC Medium Density)
footprint D0014A_M (SOIC, 14-Leads, Body 8.75x4mm, Pitch 1.27mm, IPC Low Density)
footprint D0014A_L (SOIC, 14-Leads, Body 8.75x4mm, Pitch 1.27mm, IPC High Density)
part A pins: 1 1Y (out), 2 1A (in), 3 1B (in), 4 1C (in), 5 1D (in)
part B pins: 9 2A (in), 10 2B (in), 11 2C (in), 12 2D (in), 13 2Y (out)
part C pins: 6 NC, 7 GND (power), 8 NC, 14 VCC (power)

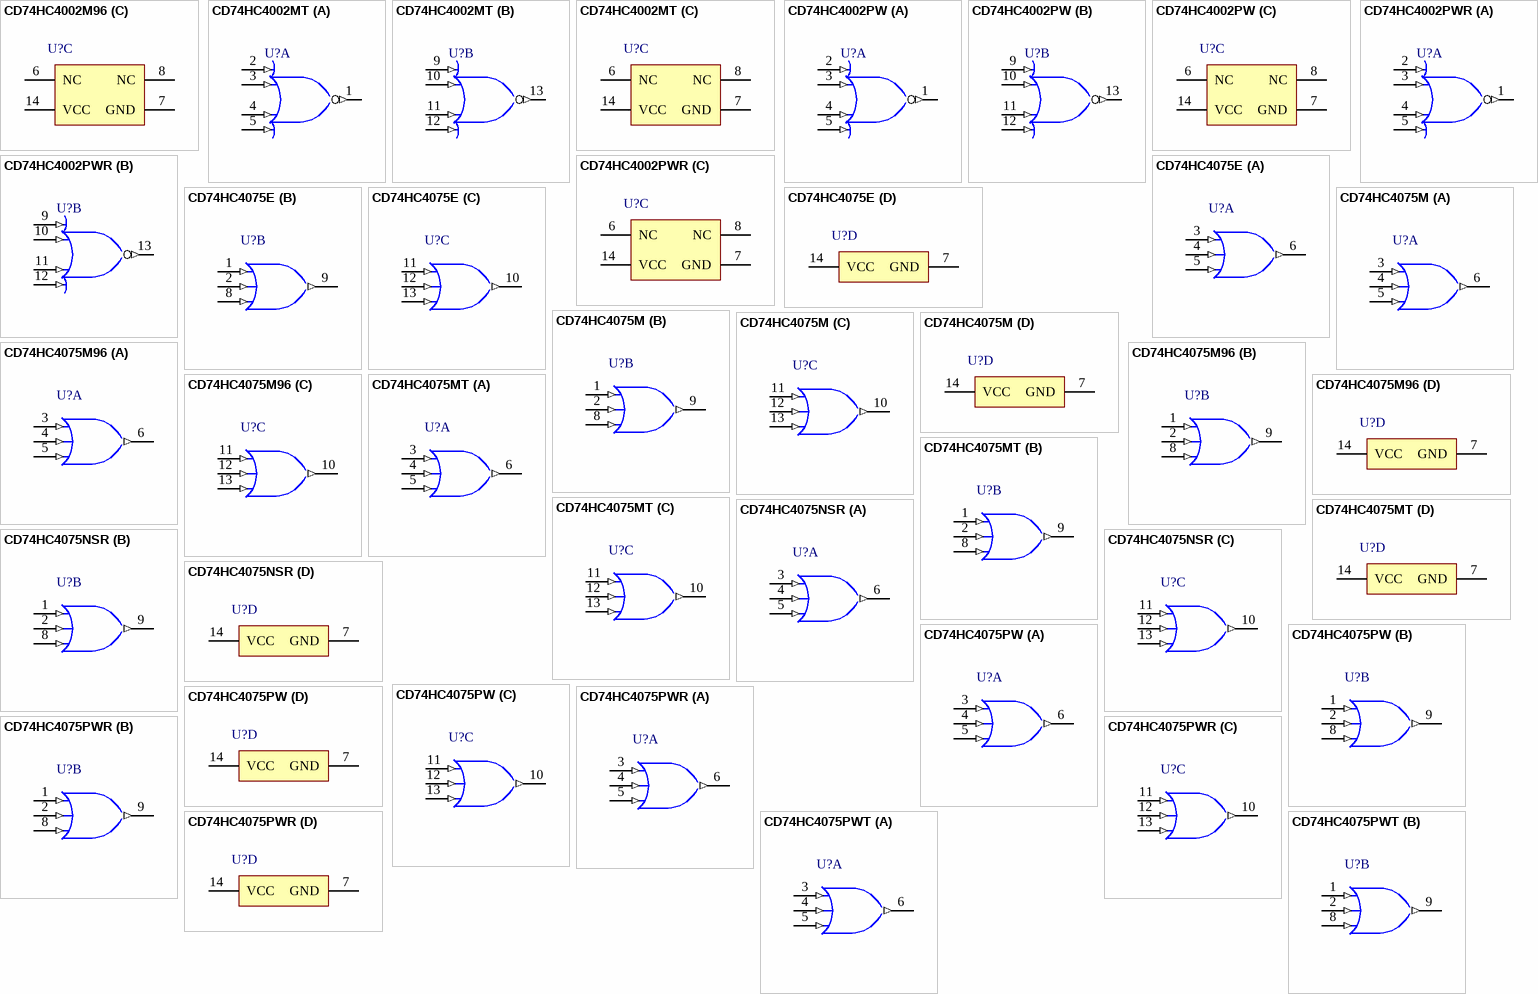
[diagram p24: symbols CD74HC4002M96 to CD74HC4075PWT]

## CD74HC4002M96
designator U?
High Speed CMOS Logic Dual 4-Input NOR Gates, D0014A, LARGE T&R; Generic Part Number: CD74HC4002; Manufacturer: Texas Instruments; PartNumber: CD74HC4002M96; VCC(Min)(V): 2; VCC(Max)(V): 6; Rating: Catalog; tpd @ Nom Voltage(Max)(ns): 25; ICC @ Nom Voltage(Max)(mA): 0.02; F @ Nom Voltage(Max)(Mhz): 70; Voltage(Nom)(V): 5; Output Drive (IOL/IOH)(Max)(mA): 5.2/-5.2; DatasheetVersion: SCHS197E; PackageReference: D0014A; Output Type: CMOS; Input Type: CMOS; Bits(#): 2; Operating Temperature Range(C): -55 to 125; Code_JEDEC: MS-012; ComponentLink1Description: Manufacturer URL; ComponentLink1URL: http://www.ti.com/; ComponentLink2Description: Datasheet; ComponentLink2URL: http://www.ti.com/lit/ds/symlink/cd74hc4002.pdf; ComponentLink3Description: Package Specification; ComponentLink3URL: http://www.ti.com/lit/ml/mpds177g/mpds177g.pdf
footprint D0014A_N (SOIC, 14-Leads, Body 8.75x4mm, Pitch 1.27mm, IPC Medium Density)
footprint D0014A_M (SOIC, 14-Leads, Body 8.75x4mm, Pitch 1.27mm, IPC Low Density)
footprint D0014A_L (SOIC, 14-Leads, Body 8.75x4mm, Pitch 1.27mm, IPC High Density)
part A pins: 1 1Y (out), 2 1A (in), 3 1B (in), 4 1C (in), 5 1D (in)
part B pins: 9 2A (in), 10 2B (in), 11 2C (in), 12 2D (in), 13 2Y (out)
part C pins: 6 NC, 7 GND (power), 8 NC, 14 VCC (power)

## CD74HC4002MT
designator U?
High Speed CMOS Logic Dual 4-Input NOR Gates, D0014A, SMALL T&R; Generic Part Number: CD74HC4002; Manufacturer: Texas Instruments; PartNumber: CD74HC4002MT; VCC(Min)(V): 2; VCC(Max)(V): 6; Rating: Catalog; tpd @ Nom Voltage(Max)(ns): 25; ICC @ Nom Voltage(Max)(mA): 0.02; F @ Nom Voltage(Max)(Mhz): 70; Voltage(Nom)(V): 5; Output Drive (IOL/IOH)(Max)(mA): 5.2/-5.2; DatasheetVersion: SCHS197E; PackageReference: D0014A; Output Type: CMOS; Input Type: CMOS; Bits(#): 2; Operating Temperature Range(C): -55 to 125; Code_JEDEC: MS-012; ComponentLink1Description: Manufacturer URL; ComponentLink1URL: http://www.ti.com/; ComponentLink2Description: Datasheet; ComponentLink2URL: http://www.ti.com/lit/ds/symlink/cd74hc4002.pdf; ComponentLink3Description: Package Specification; ComponentLink3URL: http://www.ti.com/lit/ml/mpds177g/mpds177g.pdf
footprint D0014A_N (SOIC, 14-Leads, Body 8.75x4mm, Pitch 1.27mm, IPC Medium Density)
footprint D0014A_M (SOIC, 14-Leads, Body 8.75x4mm, Pitch 1.27mm, IPC Low Density)
footprint D0014A_L (SOIC, 14-Leads, Body 8.75x4mm, Pitch 1.27mm, IPC High Density)
part A pins: 1 1Y (out), 2 1A (in), 3 1B (in), 4 1C (in), 5 1D (in)
part B pins: 9 2A (in), 10 2B (in), 11 2C (in), 12 2D (in), 13 2Y (out)
part C pins: 6 NC, 7 GND (power), 8 NC, 14 VCC (power)

## CD74HC4002PW
designator U?
High Speed CMOS Logic Dual 4-Input NOR Gates, PW0014A, TUBE; Generic Part Number: CD74HC4002; Manufacturer: Texas Instruments; PartNumber: CD74HC4002PW; VCC(Min)(V): 2; VCC(Max)(V): 6; Rating: Catalog; tpd @ Nom Voltage(Max)(ns): 25; ICC @ Nom Voltage(Max)(mA): 0.02; F @ Nom Voltage(Max)(Mhz): 70; Voltage(Nom)(V): 5; Output Drive (IOL/IOH)(Max)(mA): 5.2/-5.2; DatasheetVersion: SCHS197E; PackageReference: PW0014A; Output Type: CMOS; Input Type: CMOS; Bits(#): 2; Operating Temperature Range(C): -55 to 125; Code_JEDEC: MO-153; ComponentLink1Description: Manufacturer URL; ComponentLink1URL: http://www.ti.com/; ComponentLink2Description: Datasheet; ComponentLink2URL: http://www.ti.com/lit/ds/symlink/cd74hc4002.pdf; ComponentLink3Description: Package Specification; ComponentLink3URL: http://www.ti.com/lit/ml/mpds360/mpds360.pdf
footprint PW0014A_N (SOP, 14-Leads, Body 5.1x4.5mm, Pitch 0.65mm, IPC Medium Density)
footprint PW0014A_M (SOP, 14-Leads, Body 5.1x4.5mm, Pitch 0.65mm, IPC Low Density)
footprint PW0014A_L (SOP, 14-Leads, Body 5.1x4.5mm, Pitch 0.65mm, IPC High Density)
part A pins: 1 1Y (out), 2 1A (in), 3 1B (in), 4 1C (in), 5 1D (in)
part B pins: 9 2A (in), 10 2B (in), 11 2C (in), 12 2D (in), 13 2Y (out)
part C pins: 6 NC, 7 GND (power), 8 NC, 14 VCC (power)

## CD74HC4002PWR
designator U?
High Speed CMOS Logic Dual 4-Input NOR Gates, PW0014A, LARGE T&R; Generic Part Number: CD74HC4002; Manufacturer: Texas Instruments; PartNumber: CD74HC4002PWR; VCC(Min)(V): 2; VCC(Max)(V): 6; Rating: Catalog; tpd @ Nom Voltage(Max)(ns): 25; ICC @ Nom Voltage(Max)(mA): 0.02; F @ Nom Voltage(Max)(Mhz): 70; Voltage(Nom)(V): 5; Output Drive (IOL/IOH)(Max)(mA): 5.2/-5.2; DatasheetVersion: SCHS197E; PackageReference: PW0014A; Output Type: CMOS; Input Type: CMOS; Bits(#): 2; Operating Temperature Range(C): -55 to 125; Code_JEDEC: MO-153; ComponentLink1Description: Manufacturer URL; ComponentLink1URL: http://www.ti.com/; ComponentLink2Description: Datasheet; ComponentLink2URL: http://www.ti.com/lit/ds/symlink/cd74hc4002.pdf; ComponentLink3Description: Package Specification; ComponentLink3URL: http://www.ti.com/lit/ml/mpds360/mpds360.pdf
footprint PW0014A_N (SOP, 14-Leads, Body 5.1x4.5mm, Pitch 0.65mm, IPC Medium Density)
footprint PW0014A_M (SOP, 14-Leads, Body 5.1x4.5mm, Pitch 0.65mm, IPC Low Density)
footprint PW0014A_L (SOP, 14-Leads, Body 5.1x4.5mm, Pitch 0.65mm, IPC High Density)
part A pins: 1 1Y (out), 2 1A (in), 3 1B (in), 4 1C (in), 5 1D (in)
part B pins: 9 2A (in), 10 2B (in), 11 2C (in), 12 2D (in), 13 2Y (out)
part C pins: 6 NC, 7 GND (power), 8 NC, 14 VCC (power)

## CD74HC4075E
designator U?
High Speed CMOS Logic Triple 3-Input OR Gates, N0014A, TUBE; Generic Part Number: CD74HC4075; Manufacturer: Texas Instruments; PartNumber: CD74HC4075E; VCC(Min)(V): 2; VCC(Max)(V): 6; ICC @ Nom Voltage(Max)(mA): 0.02; Bits(#): 3; F @ Nom Voltage(Max)(Mhz): 70; Rating: Catalog; Voltage(Nom)(V): 5; Output Drive (IOL/IOH)(Max)(mA): 5.2/-5.2; tpd @ Nom Voltage(Max)(ns): 25; DatasheetVersion: SCHS210G; PackageReference: N0014A; Output Type: CMOS; Input Type: CMOS; Operating Temperature Range(C): -55 to 125; Code_JEDEC: MS-001; ComponentLink1Description: Manufacturer URL; ComponentLink1URL: http://www.ti.com/; ComponentLink2Description: Datasheet; ComponentLink2URL: http://www.ti.com/lit/ds/symlink/cd74hc4075.pdf; ComponentLink3Description: Package Specification; ComponentLink3URL: http://www.ti.com/lit/ml/mpdi002c/mpdi002c.pdf
footprint N0014A (DIP, 14-Leads, Body 19.7x6.6mm, Pitch 2.54mm)
part A pins: 3 1A (in), 4 1B (in), 5 1C (in), 6 1Y (out)
part B pins: 1 2A (in), 2 2B (in), 8 2C (in), 9 2Y (out)
part C pins: 10 3Y (out), 11 3A (in), 12 3B (in), 13 3C (in)
part D pins: 7 GND (power), 14 VCC (power)

## CD74HC4075M
designator U?
High Speed CMOS Logic Triple 3-Input OR Gates, D0014A, TUBE; Generic Part Number: CD74HC4075; Manufacturer: Texas Instruments; PartNumber: CD74HC4075M; VCC(Min)(V): 2; VCC(Max)(V): 6; ICC @ Nom Voltage(Max)(mA): 0.02; Bits(#): 3; F @ Nom Voltage(Max)(Mhz): 70; Rating: Catalog; Voltage(Nom)(V): 5; Output Drive (IOL/IOH)(Max)(mA): 5.2/-5.2; tpd @ Nom Voltage(Max)(ns): 25; DatasheetVersion: SCHS210G; PackageReference: D0014A; Output Type: CMOS; Input Type: CMOS; Operating Temperature Range(C): -55 to 125; Code_JEDEC: MS-012; ComponentLink1Description: Manufacturer URL; ComponentLink1URL: http://www.ti.com/; ComponentLink2Description: Datasheet; ComponentLink2URL: http://www.ti.com/lit/ds/symlink/cd74hc4075.pdf; ComponentLink3Description: Package Specification; ComponentLink3URL: http://www.ti.com/lit/ml/mpds177g/mpds177g.pdf
footprint D0014A_N (SOIC, 14-Leads, Body 8.75x4mm, Pitch 1.27mm, IPC Medium Density)
footprint D0014A_M (SOIC, 14-Leads, Body 8.75x4mm, Pitch 1.27mm, IPC Low Density)
footprint D0014A_L (SOIC, 14-Leads, Body 8.75x4mm, Pitch 1.27mm, IPC High Density)
part A pins: 3 1A (in), 4 1B (in), 5 1C (in), 6 1Y (out)
part B pins: 1 2A (in), 2 2B (in), 8 2C (in), 9 2Y (out)
part C pins: 10 3Y (out), 11 3A (in), 12 3B (in), 13 3C (in)
part D pins: 7 GND (power), 14 VCC (power)

## CD74HC4075M96
designator U?
High Speed CMOS Logic Triple 3-Input OR Gates, D0014A, LARGE T&R; Generic Part Number: CD74HC4075; Manufacturer: Texas Instruments; PartNumber: CD74HC4075M96; VCC(Min)(V): 2; VCC(Max)(V): 6; ICC @ Nom Voltage(Max)(mA): 0.02; Bits(#): 3; F @ Nom Voltage(Max)(Mhz): 70; Rating: Catalog; Voltage(Nom)(V): 5; Output Drive (IOL/IOH)(Max)(mA): 5.2/-5.2; tpd @ Nom Voltage(Max)(ns): 25; DatasheetVersion: SCHS210G; PackageReference: D0014A; Output Type: CMOS; Input Type: CMOS; Operating Temperature Range(C): -55 to 125; Code_JEDEC: MS-012; ComponentLink1Description: Manufacturer URL; ComponentLink1URL: http://www.ti.com/; ComponentLink2Description: Datasheet; ComponentLink2URL: http://www.ti.com/lit/ds/symlink/cd74hc4075.pdf; ComponentLink3Description: Package Specification; ComponentLink3URL: http://www.ti.com/lit/ml/mpds177g/mpds177g.pdf
footprint D0014A_N (SOIC, 14-Leads, Body 8.75x4mm, Pitch 1.27mm, IPC Medium Density)
footprint D0014A_M (SOIC, 14-Leads, Body 8.75x4mm, Pitch 1.27mm, IPC Low Density)
footprint D0014A_L (SOIC, 14-Leads, Body 8.75x4mm, Pitch 1.27mm, IPC High Density)
part A pins: 3 1A (in), 4 1B (in), 5 1C (in), 6 1Y (out)
part B pins: 1 2A (in), 2 2B (in), 8 2C (in), 9 2Y (out)
part C pins: 10 3Y (out), 11 3A (in), 12 3B (in), 13 3C (in)
part D pins: 7 GND (power), 14 VCC (power)

## CD74HC4075MT
designator U?
High Speed CMOS Logic Triple 3-Input OR Gates, D0014A, SMALL T&R; Generic Part Number: CD74HC4075; Manufacturer: Texas Instruments; PartNumber: CD74HC4075MT; VCC(Min)(V): 2; VCC(Max)(V): 6; ICC @ Nom Voltage(Max)(mA): 0.02; Bits(#): 3; F @ Nom Voltage(Max)(Mhz): 70; Rating: Catalog; Voltage(Nom)(V): 5; Output Drive (IOL/IOH)(Max)(mA): 5.2/-5.2; tpd @ Nom Voltage(Max)(ns): 25; DatasheetVersion: SCHS210G; PackageReference: D0014A; Output Type: CMOS; Input Type: CMOS; Operating Temperature Range(C): -55 to 125; Code_JEDEC: MS-012; ComponentLink1Description: Manufacturer URL; ComponentLink1URL: http://www.ti.com/; ComponentLink2Description: Datasheet; ComponentLink2URL: http://www.ti.com/lit/ds/symlink/cd74hc4075.pdf; ComponentLink3Description: Package Specification; ComponentLink3URL: http://www.ti.com/lit/ml/mpds177g/mpds177g.pdf
footprint D0014A_N (SOIC, 14-Leads, Body 8.75x4mm, Pitch 1.27mm, IPC Medium Density)
footprint D0014A_M (SOIC, 14-Leads, Body 8.75x4mm, Pitch 1.27mm, IPC Low Density)
footprint D0014A_L (SOIC, 14-Leads, Body 8.75x4mm, Pitch 1.27mm, IPC High Density)
part A pins: 3 1A (in), 4 1B (in), 5 1C (in), 6 1Y (out)
part B pins: 1 2A (in), 2 2B (in), 8 2C (in), 9 2Y (out)
part C pins: 10 3Y (out), 11 3A (in), 12 3B (in), 13 3C (in)
part D pins: 7 GND (power), 14 VCC (power)

## CD74HC4075NSR
designator U?
High Speed CMOS Logic Triple 3-Input OR Gates, NS0014A, LARGE T&R; Generic Part Number: CD74HC4075; Manufacturer: Texas Instruments; PartNumber: CD74HC4075NSR; VCC(Min)(V): 2; VCC(Max)(V): 6; ICC @ Nom Voltage(Max)(mA): 0.02; Bits(#): 3; F @ Nom Voltage(Max)(Mhz): 70; Rating: Catalog; Voltage(Nom)(V): 5; Output Drive (IOL/IOH)(Max)(mA): 5.2/-5.2; tpd @ Nom Voltage(Max)(ns): 25; DatasheetVersion: SCHS210G; PackageReference: NS0014A; Output Type: CMOS; Input Type: CMOS; Operating Temperature Range(C): -55 to 125; ComponentLink1Description: Manufacturer URL; ComponentLink1URL: http://www.ti.com/; ComponentLink2Description: Datasheet; ComponentLink2URL: http://www.ti.com/lit/ds/symlink/cd74hc4075.pdf; ComponentLink3Description: Package Specification; ComponentLink3URL: http://www.ti.com/lit/ml/msop002a/msop002a.pdf
footprint NS0014A_N (SOIC,14-Leads,Body 10.5x5.6mm,Pitch 1.27mm,IPC Medium Density)
footprint NS0014A_M (SOIC,14-Leads,Body 10.5x5.6mm,Pitch 1.27mm,IPC Low Density)
footprint NS0014A_L (SOIC,14-Leads,Body 10.5x5.6mm,Pitch 0.4mm,IPC High Density)
part A pins: 3 1A (in), 4 1B (in), 5 1C (in), 6 1Y (out)
part B pins: 1 2A (in), 2 2B (in), 8 2C (in), 9 2Y (out)
part C pins: 10 3Y (out), 11 3A (in), 12 3B (in), 13 3C (in)
part D pins: 7 GND (power), 14 VCC (power)

## CD74HC4075PW
designator U?
High Speed CMOS Logic Triple 3-Input OR Gates, PW0014A, TUBE; Generic Part Number: CD74HC4075; Manufacturer: Texas Instruments; PartNumber: CD74HC4075PW; VCC(Min)(V): 2; VCC(Max)(V): 6; ICC @ Nom Voltage(Max)(mA): 0.02; Bits(#): 3; F @ Nom Voltage(Max)(Mhz): 70; Rating: Catalog; Voltage(Nom)(V): 5; Output Drive (IOL/IOH)(Max)(mA): 5.2/-5.2; tpd @ Nom Voltage(Max)(ns): 25; DatasheetVersion: SCHS210G; PackageReference: PW0014A; Output Type: CMOS; Input Type: CMOS; Operating Temperature Range(C): -55 to 125; Code_JEDEC: MO-153; ComponentLink1Description: Manufacturer URL; ComponentLink1URL: http://www.ti.com/; ComponentLink2Description: Datasheet; ComponentLink2URL: http://www.ti.com/lit/ds/symlink/cd74hc4075.pdf; ComponentLink3Description: Package Specification; ComponentLink3URL: http://www.ti.com/lit/ml/mpds360/mpds360.pdf
footprint PW0014A_N (SOP, 14-Leads, Body 5.1x4.5mm, Pitch 0.65mm, IPC Medium Density)
footprint PW0014A_M (SOP, 14-Leads, Body 5.1x4.5mm, Pitch 0.65mm, IPC Low Density)
footprint PW0014A_L (SOP, 14-Leads, Body 5.1x4.5mm, Pitch 0.65mm, IPC High Density)
part A pins: 3 1A (in), 4 1B (in), 5 1C (in), 6 1Y (out)
part B pins: 1 2A (in), 2 2B (in), 8 2C (in), 9 2Y (out)
part C pins: 10 3Y (out), 11 3A (in), 12 3B (in), 13 3C (in)
part D pins: 7 GND (power), 14 VCC (power)

## CD74HC4075PWR
designator U?
High Speed CMOS Logic Triple 3-Input OR Gates, PW0014A, LARGE T&R; Generic Part Number: CD74HC4075; Manufacturer: Texas Instruments; PartNumber: CD74HC4075PWR; VCC(Min)(V): 2; VCC(Max)(V): 6; ICC @ Nom Voltage(Max)(mA): 0.02; Bits(#): 3; F @ Nom Voltage(Max)(Mhz): 70; Rating: Catalog; Voltage(Nom)(V): 5; Output Drive (IOL/IOH)(Max)(mA): 5.2/-5.2; tpd @ Nom Voltage(Max)(ns): 25; DatasheetVersion: SCHS210G; PackageReference: PW0014A; Output Type: CMOS; Input Type: CMOS; Operating Temperature Range(C): -55 to 125; Code_JEDEC: MO-153; ComponentLink1Description: Manufacturer URL; ComponentLink1URL: http://www.ti.com/; ComponentLink2Description: Datasheet; ComponentLink2URL: http://www.ti.com/lit/ds/symlink/cd74hc4075.pdf; ComponentLink3Description: Package Specification; ComponentLink3URL: http://www.ti.com/lit/ml/mpds360/mpds360.pdf
footprint PW0014A_N (SOP, 14-Leads, Body 5.1x4.5mm, Pitch 0.65mm, IPC Medium Density)
footprint PW0014A_M (SOP, 14-Leads, Body 5.1x4.5mm, Pitch 0.65mm, IPC Low Density)
footprint PW0014A_L (SOP, 14-Leads, Body 5.1x4.5mm, Pitch 0.65mm, IPC High Density)
part A pins: 3 1A (in), 4 1B (in), 5 1C (in), 6 1Y (out)
part B pins: 1 2A (in), 2 2B (in), 8 2C (in), 9 2Y (out)
part C pins: 10 3Y (out), 11 3A (in), 12 3B (in), 13 3C (in)
part D pins: 7 GND (power), 14 VCC (power)

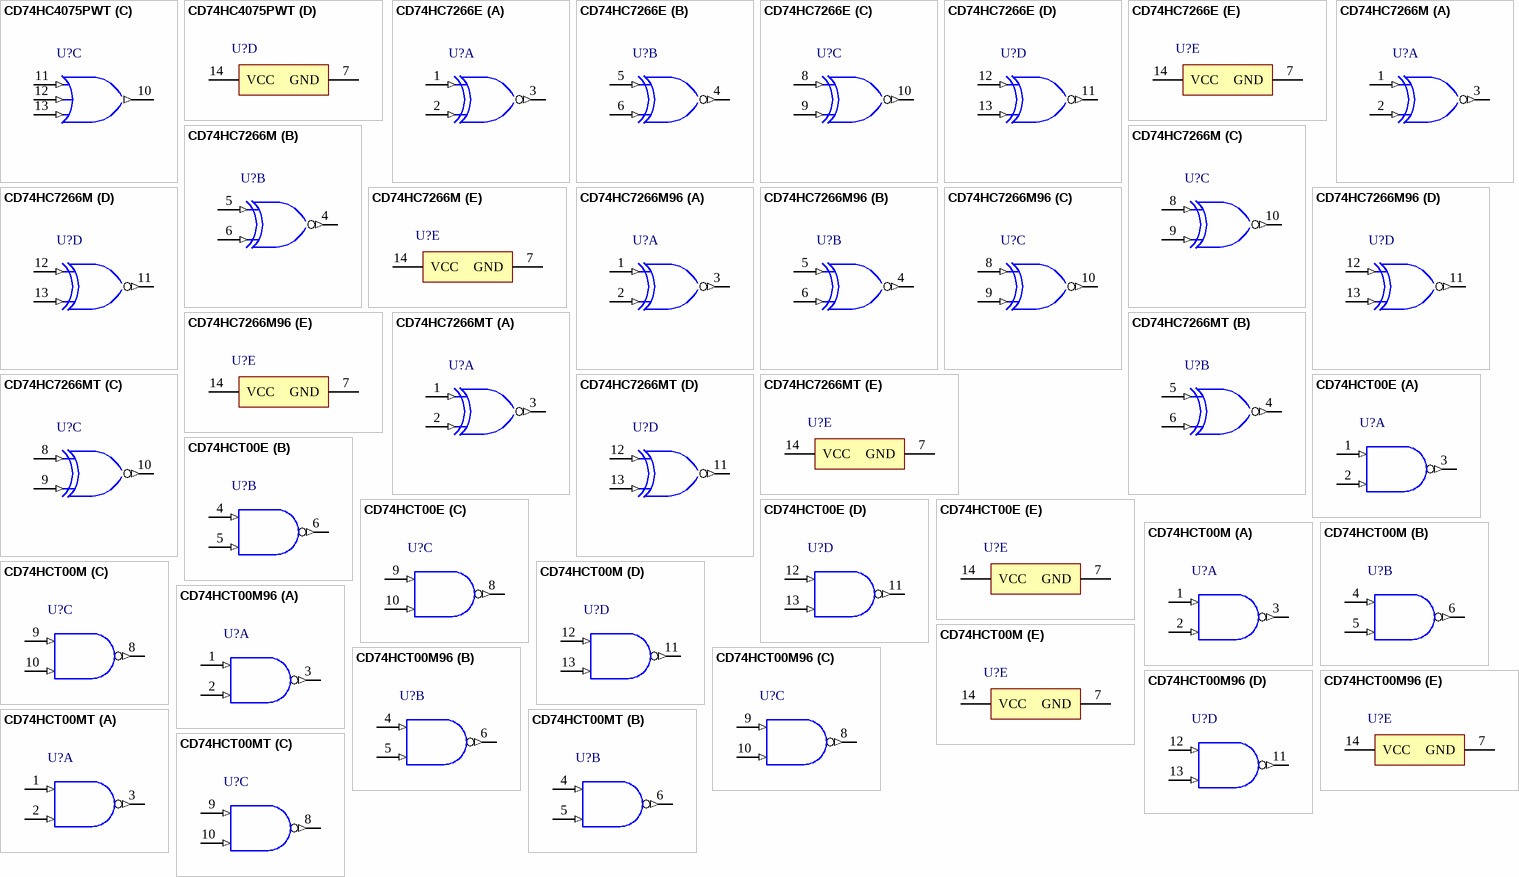
[diagram p25: symbols CD74HC4075PWT to CD74HCT00MT]

## CD74HC4075PWT
designator U?
High Speed CMOS Logic Triple 3-Input OR Gates, PW0014A, SMALL T&R; Generic Part Number: CD74HC4075; Manufacturer: Texas Instruments; PartNumber: CD74HC4075PWT; VCC(Min)(V): 2; VCC(Max)(V): 6; ICC @ Nom Voltage(Max)(mA): 0.02; Bits(#): 3; F @ Nom Voltage(Max)(Mhz): 70; Rating: Catalog; Voltage(Nom)(V): 5; Output Drive (IOL/IOH)(Max)(mA): 5.2/-5.2; tpd @ Nom Voltage(Max)(ns): 25; DatasheetVersion: SCHS210G; PackageReference: PW0014A; Output Type: CMOS; Input Type: CMOS; Operating Temperature Range(C): -55 to 125; Code_JEDEC: MO-153; ComponentLink1Description: Manufacturer URL; ComponentLink1URL: http://www.ti.com/; ComponentLink2Description: Datasheet; ComponentLink2URL: http://www.ti.com/lit/ds/symlink/cd74hc4075.pdf; ComponentLink3Description: Package Specification; ComponentLink3URL: http://www.ti.com/lit/ml/mpds360/mpds360.pdf
footprint PW0014A_N (SOP, 14-Leads, Body 5.1x4.5mm, Pitch 0.65mm, IPC Medium Density)
footprint PW0014A_M (SOP, 14-Leads, Body 5.1x4.5mm, Pitch 0.65mm, IPC Low Density)
footprint PW0014A_L (SOP, 14-Leads, Body 5.1x4.5mm, Pitch 0.65mm, IPC High Density)
part A pins: 3 1A (in), 4 1B (in), 5 1C (in), 6 1Y (out)
part B pins: 1 2A (in), 2 2B (in), 8 2C (in), 9 2Y (out)
part C pins: 10 3Y (out), 11 3A (in), 12 3B (in), 13 3C (in)
part D pins: 7 GND (power), 14 VCC (power)